# EAGLE library part ATSAMD21J (library we-chip)
Microchip ATSAMD21Jxx ARM Cortex-M0+ (64 pin) ...18 - 256kb Flash 32kb RAM ...17 - 128kb Flash 16kb RAM ...16 - 64kb Flash 8kb RAM ...15 - 32kb Flash 4kb RAM
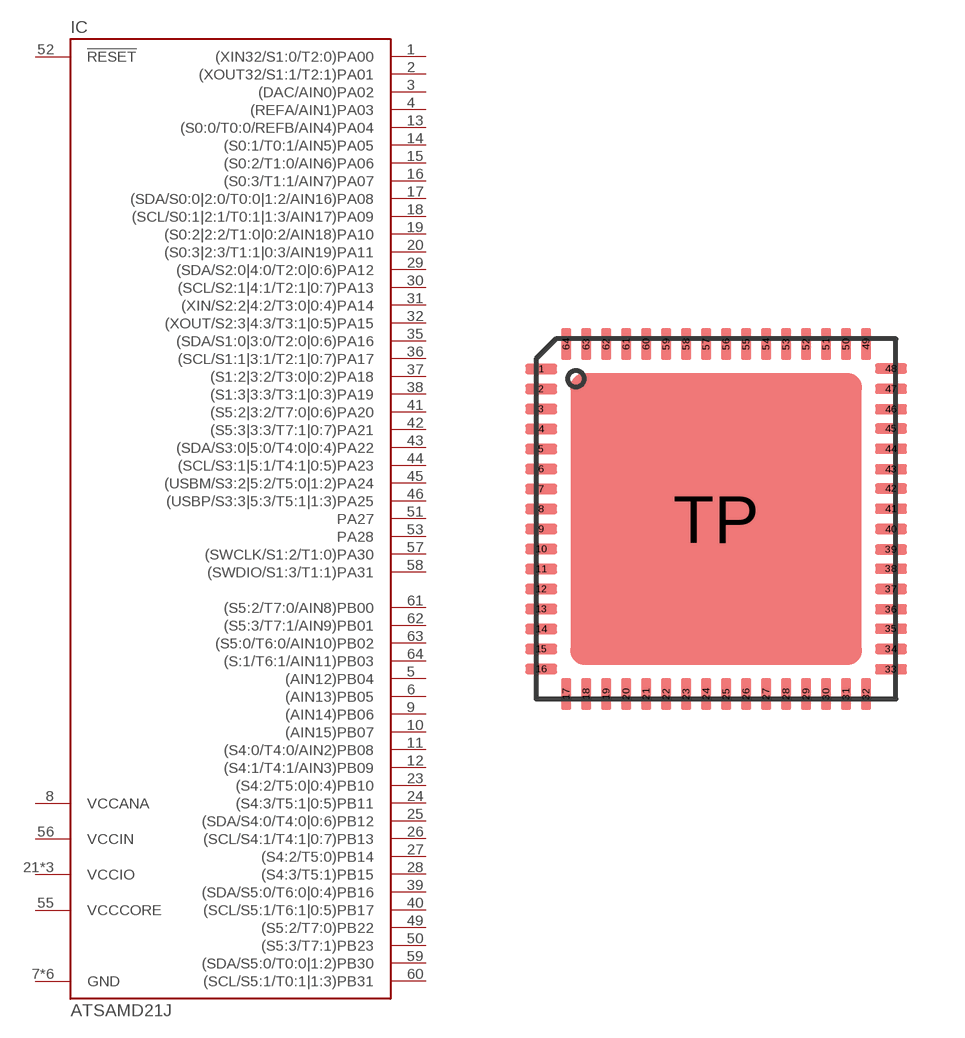
[diagram p46: symbol with the pads of QFN64-PAD; footprint QFN64-PAD]

Designator prefix IC

## ATSAMD21J18A-MU  [QFN64-PAD]
1  (XIN32/S1:0/T2:0)PA00
2  (XOUT32/S1:1/T2:1)PA01
3  (DAC/AIN0)PA02
4  (REFA/AIN1)PA03
5  (AIN12)PB04
6  (AIN13)PB05
7  GND  pwr
8  VCCANA  pwr
9  (AIN14)PB06
10  (AIN15)PB07
11  (S4:0/T4:0/AIN2)PB08
12  (S4:1/T4:1/AIN3)PB09
13  (S0:0/T0:0/REFB/AIN4)PA04
14  (S0:1/T0:1/AIN5)PA05
15  (S0:2/T1:0/AIN6)PA06
16  (S0:3/T1:1/AIN7)PA07
17  (SDA/S0:0|2:0/T0:0|1:2/AIN16)PA08
18  (SCL/S0:1|2:1/T0:1|1:3/AIN17)PA09
19  (S0:2|2:2/T1:0|0:2/AIN18)PA10
20  (S0:3|2:3/T1:1|0:3/AIN19)PA11
21  VCCIO  pwr
22  GND  pwr
23  (S4:2/T5:0|0:4)PB10
24  (S4:3/T5:1|0:5)PB11
25  (SDA/S4:0/T4:0|0:6)PB12
26  (SCL/S4:1/T4:1|0:7)PB13
27  (S4:2/T5:0)PB14
28  (S4:3/T5:1)PB15
29  (SDA/S2:0|4:0/T2:0|0:6)PA12
30  (SCL/S2:1|4:1/T2:1|0:7)PA13
31  (XIN/S2:2|4:2/T3:0|0:4)PA14
32  (XOUT/S2:3|4:3/T3:1|0:5)PA15
33  GND  pwr
34  VCCIO  pwr
35  (SDA/S1:0|3:0/T2:0|0:6)PA16
36  (SCL/S1:1|3:1/T2:1|0:7)PA17
37  (S1:2|3:2/T3:0|0:2)PA18
38  (S1:3|3:3/T3:1|0:3)PA19
39  (SDA/S5:0/T6:0|0:4)PB16
40  (SCL/S5:1/T6:1|0:5)PB17
41  (S5:2|3:2/T7:0|0:6)PA20
42  (S5:3|3:3/T7:1|0:7)PA21
43  (SDA/S3:0|5:0/T4:0|0:4)PA22
44  (SCL/S3:1|5:1/T4:1|0:5)PA23
45  (USBM/S3:2|5:2/T5:0|1:2)PA24
46  (USBP/S3:3|5:3/T5:1|1:3)PA25
47  GND  pwr
48  VCCIO  pwr
49  (S5:2/T7:0)PB22
50  (S5:3/T7:1)PB23
51  PA27
52  !RESET  in
53  PA28
54  GND  pwr
55  VCCCORE  pwr
56  VCCIN  pwr
57  (SWCLK/S1:2/T1:0)PA30
58  (SWDIO/S1:3/T1:1)PA31
59  (SDA/S5:0/T0:0|1:2)PB30
60  (SCL/S5:1/T0:1|1:3)PB31
61  (S5:2/T7:0/AIN8)PB00
62  (S5:3/T7:1/AIN9)PB01
63  (S5:0/T6:0/AIN10)PB02
64  (S:1/T6:1/AIN11)PB03
TP  GND  pwr

## Footprint QFN64-PAD (pad centres in mm)
smd 0.8 x 0.26: 1 -4.375,3.75; 2 -4.375,3.25; 3 -4.375,2.75; 4 -4.375,2.25; 5 -4.375,1.75; 6 -4.375,1.25; 7 -4.375,0.75; 8 -4.375,0.25; 9 -4.375,-0.25; 10 -4.375,-0.75; 11 -4.375,-1.25; 12 -4.375,-1.75; 13 -4.375,-2.25; 14 -4.375,-2.75; 15 -4.375,-3.25; 16 -4.375,-3.75; 33 4.375,-3.759; 34 4.375,-3.251; 35 4.375,-2.743; 36 4.375,-2.261; 37 4.375,-1.753; 38 4.375,-1.245; 39 4.375,-0.762; 40 4.375,-0.254; 41 4.375,0.254; 42 4.375,0.762; 43 4.375,1.245; 44 4.375,1.753; 45 4.375,2.261; 46 4.375,2.743; 47 4.375,3.251; 48 4.375,3.759
smd 0.26 x 0.8: 17 -3.75,-4.375; 18 -3.25,-4.375; 19 -2.75,-4.375; 20 -2.25,-4.375; 21 -1.75,-4.375; 22 -1.25,-4.375; 23 -0.75,-4.375; 24 -0.25,-4.375; 25 0.25,-4.375; 26 0.75,-4.375; 27 1.25,-4.375; 28 1.75,-4.375; 29 2.25,-4.375; 30 2.75,-4.375; 31 3.25,-4.375; 32 3.75,-4.375; 49 3.75,4.375; 50 3.25,4.375; 51 2.75,4.375; 52 2.25,4.375; 53 1.75,4.375; 54 1.25,4.375; 55 0.75,4.375; 56 0.25,4.375; 57 -0.25,4.375; 58 -0.75,4.375; 59 -1.25,4.375; 60 -1.75,4.375; 61 -2.25,4.375; 62 -2.75,4.375; 63 -3.25,4.375; 64 -3.75,4.375
smd 7.3 x 7.3: TP 0,0